# Altium schematic symbol library Inductors.SchLib: 13 symbols
Pins are listed as number, name and electrical type; pins without a type are passive.

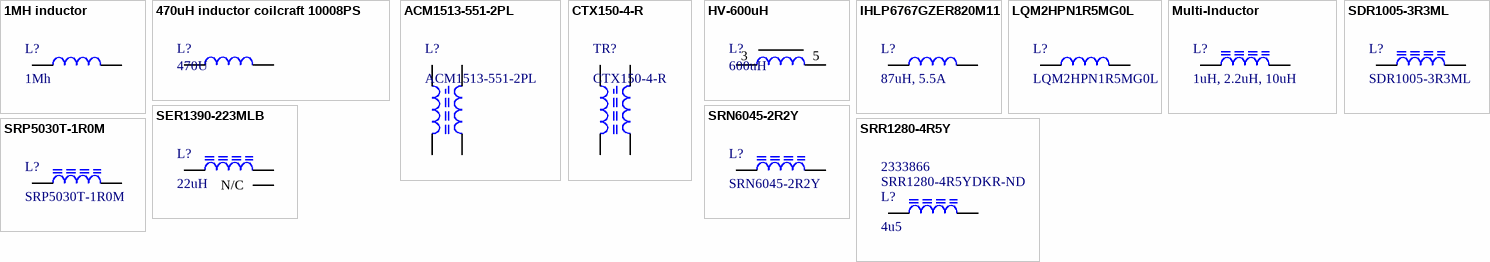
[diagram p0: symbols 1MH inductor to SRR1280-4R5Y]

## 1MH inductor
designator L?, comment 1Mh
Supplier 1: Mouser; Supplier Part Number 1: 81-LQH43MN102J03L
footprint Murata_LQH43MN series (Precision Wire Wound Inductor, 2-Leads, Body 4.50x3.10mm, IPC Medium Density)
pins: 1, 2

## 470uH inductor coilcraft 10008PS
designator L?, comment 470U
Supplier 1: Farnell; Supplier Part Number 1: 2286892
footprint 1008PS coilcraft inductor (power chip inductor coilcraft 1008PS)
pins: 1, 2

## ACM1513-551-2PL
designator L?
Filter, Common Mode, ACM Series, 550 ohm, 10 A,; Supplier 1: Farnell; Supplier 2: RSComponents; Supplier Part Number 1: 1503729; Supplier Part Number 2: 605-9222
footprint ACM1513-551-2PL (Filter, Common Mode, ACM Series, 550 ohm, 10 A)
pins: 1, 2, 3, 4

## CTX150-4-R
designator TR?
Supplier 1: Octopart; Supplier 2: Mouser; Supplier Part Number 1: Avnet - CTX150-4-R; Supplier Part Number 2: 704-CTX150-4-R
footprint CTX_1 (Power Inductors and Transformers)
pins: 1, 2, 3, 4

## HV-600uH
designator L?, comment 600uH
PM50/39, B65647B1014T001; Supplier 1: Octopart; Supplier 2: Mouser; Supplier Part Number 1: Farnell - 2355114; Supplier Part Number 2: 871-B65647B1014T1
footprint PM50/39 (PM Coil Former, 14 Pins)
pins: 3, 5

## IHLP6767GZER820M11
designator L?, comment 87uH, 5.5A
IHLP6767GZER820M11; Supplier 1: Farnell; Supplier 2: Mouser; Supplier Part Number 1: 1845601; Supplier Part Number 2: 70-IHLP6767GZER820M1
footprint IHLP6767GZ
pins: 1, 2

## LQM2HPN1R5MG0L
designator L?
1.5 µH, ± 20%, High Frequency Inductor; Supplier 1: Farnell; Supplier Part Number 1: 2470311
footprint LQM2HPN1R5MG0L (Surface Mount High Frequency Inductor, 1008 [2520 Metric])
pins: 1, 2

## Multi-Inductor
designator L?, comment 1uH, 2.2uH, 10uH
ELL8TP100MB, IHLP1212BZER2R2M11, B82472P6102M000
footprint Multi-Size
pins: 1, 2

## SDR1005-3R3ML
designator L?
3.3 µH, 5 A, Unshielded; Supplier 1: Farnell; Supplier Part Number 1: 1828048
footprint SDR1005-3R3ML (3.3 µH, 5 A, Unshielded)
pins: 1, 2

## SER1390-223MLB
designator L?, comment 22uH
22 µH, 7 A, Shielded; Supplier 1: Mouser; Supplier Part Number 1: 994-SER1390-223MLB
footprint SER1390-223MLB (22 µH, 7 A, Shielded)
pins: 1, 2, 3 N/C

## SRN6045-2R2Y
designator L?
SRN6045 Series, 2.2 µH, ± 30%, Shielded; Supplier 1: Farnell; Supplier Part Number 1: 2061645
footprint SRN6045
pins: 1, 2

## SRP5030T-1R0M
designator L?
1 µH, ± 20%, Shielded, 0.014 ohm, 7 A; Supplier 1: Farnell; Supplier Part Number 1: 2309882
footprint SRP5030T-1R0M (SRP5030T Series)
pins: 1, 2

## SRR1280-4R5Y
designator L?, comment 4u5  Supplier Part Number 1: SRR1280-4R5YDKR-ND  Supplier Part Number 2: 2333866
Bourns 4.5 µH  DCR: 13.5 mΩ  IDC: 8.5 A; Supplier 1: Digi-Key; Supplier 2: Farnell
footprint SRR12804R5Y (Power inductor)
pins: 1, 2